# EAGLE library part MCP3302 (library microchip2)
The Microchip Technology Inc. MCP3302 13-bit A/D converters feature full differential inputs and low-power consumption in a small package that is ideal for battery powered systems and remote data acquisition applications. The MCP3302 is programmable to provide two differential input pairs or four single ended inputs. The MCP3304 is programmable and provides four differential input pairs or eight single ended inputs.
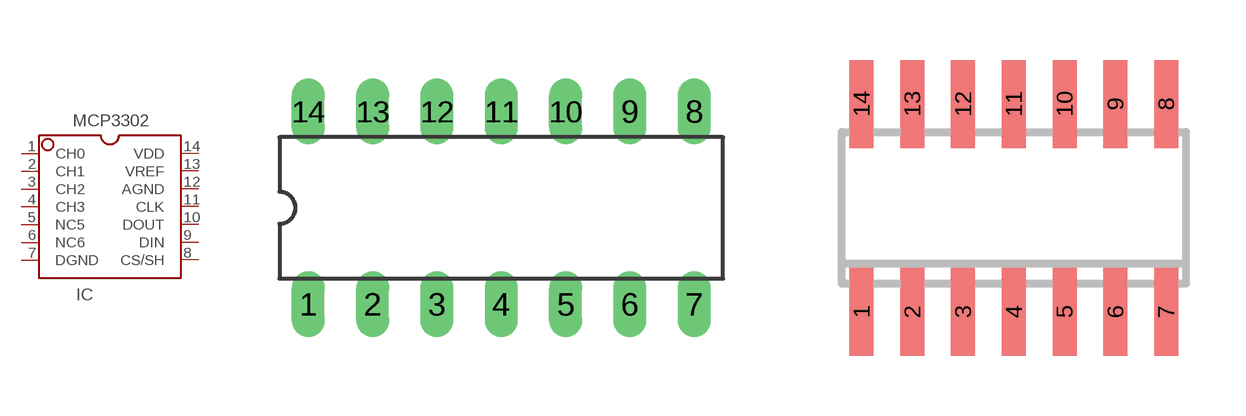
[diagram p184: symbol with the pads of DIL14; footprints DIL14, SOIC-14]

Designator prefix IC

## MCP3302  [DIL14]
1  CH0  in
2  CH1  in
3  CH2  in
4  CH3  in
5  NC5  in
6  NC6  in
7  DGND  pwr
8  CS/SH
9  DIN  in
10  DOUT  out
11  CLK
12  AGND  pwr
13  VREF
14  VDD  pwr

## MCP3302SMD  [SOIC-14]
Pads as for DIL14

## MCP3302MCP3302/B  [TSSOP14]
Pads as for DIL14

## Footprint DIL14 (pad centres in mm)
Dual In Line Package
drill 0.8 long: 1 -7.62,-3.81; 2 -5.08,-3.81; 3 -2.54,-3.81; 4 0,-3.81; 5 2.54,-3.81; 6 5.08,-3.81; 7 7.62,-3.81; 8 7.62,3.81; 9 5.08,3.81; 10 2.54,3.81; 11 0,3.81; 12 -2.54,3.81; 13 -5.08,3.81; 14 -7.62,3.81

## Footprint SOIC-14 (pad centres in mm)
14-Lead Plastic Small Outline (SL) – Narrow, 150 mil (SOIC)
smd 0.6 x 2.2: 1 -3.81,-2.6; 2 -2.54,-2.6; 3 -1.27,-2.6; 4 0,-2.6; 5 1.27,-2.6; 6 2.54,-2.6; 7 3.81,-2.6; 8 3.81,2.6; 9 2.54,2.6; 10 1.27,2.6; 11 0,2.6; 12 -1.27,2.6; 13 -2.54,2.6; 14 -3.81,2.6

## Footprint TSSOP14 (pad centres in mm)
Thin Shrink Small Outline Plastic 14
smd 0.305 x 0.991: 1 -1.95,-2.918; 2 -1.3,-2.918; 3 -0.65,-2.918; 4 0,-2.918; 5 0.65,-2.918; 6 1.3,-2.918; 7 1.95,-2.918; 8 1.95,2.918; 9 1.3,2.918; 10 0.65,2.918; 11 0,2.918; 12 -0.65,2.918; 13 -1.3,2.918; 14 -1.95,2.918